# Altium footprint library ST_QFN40P350X120X50-17L.PcbLib: 1 footprints
Each footprint in its own frame and in the unit in brackets; x right, y up, seen from the top. Pads: shape width x height; smd on the part's side, far side on the other; paste and mask are expansions set on the pad; w line width, h text height; cw(c..) or ccw(c..) is an arc to the next point about the centre after c.
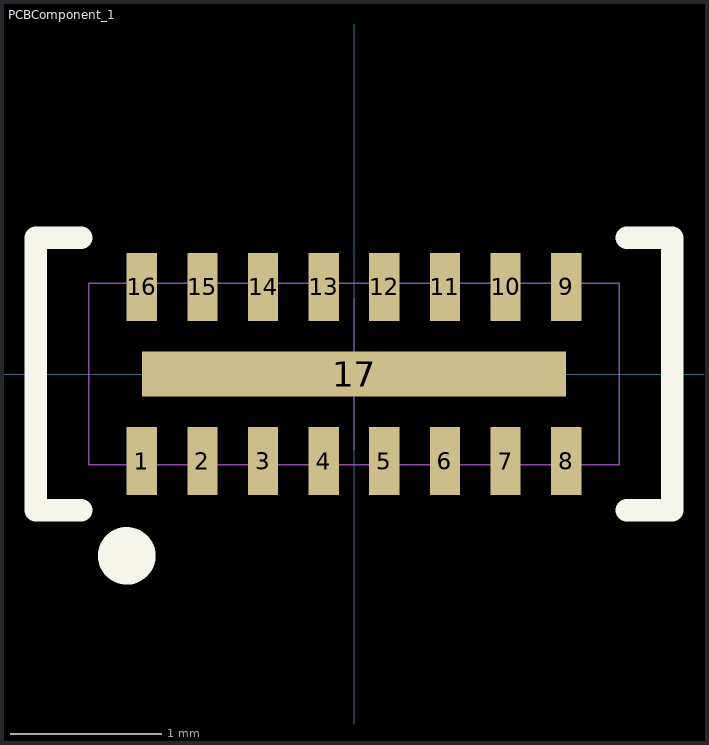
[diagram p0: the footprint, top view; thin cyan lines are the x and y axes]

## PCBComponent_1 [mm]
pads (17):
  rect 0.2x0.45 smd paste-20 mask+0.025: 1(-1.4,-0.575) 2(-1,-0.575) 3(-0.6,-0.575) 4(-0.2,-0.575) 5(0.2,-0.575) 6(0.6,-0.575) 7(1,-0.575) 8(1.4,-0.575) 9(1.4,0.575) 10(1,0.575) 11(0.6,0.575) 12(0.2,0.575) 13(-0.2,0.575) 14(-0.6,0.575) 15(-1,0.575) 16(-1.4,0.575)
  rect 2.8x0.3 smd paste-20 mask+0.025: 17(0,0)
Top Overlay:
  circle w0.2: c-1.5,-1.2 r0.09
  lines w0.15: -1.8,-0.9 -2.1,-0.9 -2.1,0.9 -1.8,0.9 ; 1.8,-0.9 2.1,-0.9 2.1,0.9 1.8,0.9
Top Paste:
  rectangle: -1.05,-0.1 1.05,0.1
  rectangle: -1.496,-0.786 -1.304,-0.364
  rectangle: -1.096,-0.786 -0.904,-0.364
  rectangle: -0.696,-0.786 -0.504,-0.364
  rectangle: -0.296,-0.786 -0.104,-0.364
  rectangle: 0.104,-0.786 0.296,-0.364
  rectangle: 0.504,-0.786 0.696,-0.364
  rectangle: 0.904,-0.786 1.096,-0.364
  rectangle: 1.304,-0.786 1.496,-0.364
  rectangle: 1.304,0.364 1.496,0.786
  rectangle: 0.904,0.364 1.096,0.786
  rectangle: 0.504,0.364 0.696,0.786
  rectangle: 0.104,0.364 0.296,0.786
  rectangle: -0.296,0.364 -0.104,0.786
  rectangle: -0.696,0.364 -0.504,0.786
  rectangle: -1.096,0.364 -0.904,0.786
  rectangle: -1.496,0.364 -1.304,0.786
Mechanical 15:
  lines w0.001: -0.5,0 0.5,0 ; 0,-0.5 0,0.5
  lines w0.01: -1.75,-0.6 -1.75,0.6 1.75,0.6 1.75,-0.6 -1.75,-0.6
3D body: height 0.5, standoff 0, extent -1.75,-0.6 1.75,0.6